# Altium footprint library LED.PcbLib: 3 footprints
Each footprint in its own frame and in the unit in brackets; x right, y up, seen from the top. Pads: shape width x height; smd on the part's side, far side on the other; paste and mask are expansions set on the pad; w line width, h text height; cw(c..) or ccw(c..) is an arc to the next point about the centre after c.
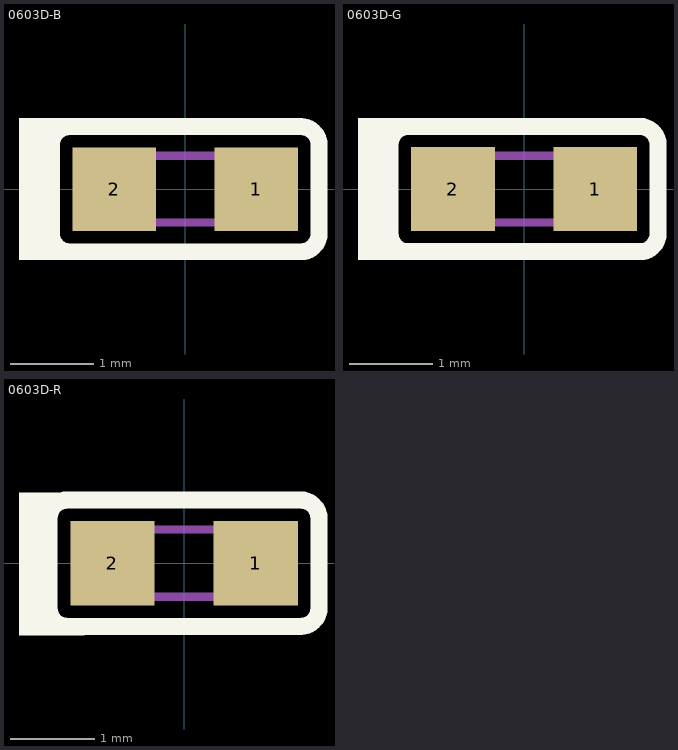
[diagram p0: the footprints below, top view; thin cyan lines are the x and y axes]

## 0603D-B [mm] "Blue LED  PKG=0603"
pads (2):
  rect 1x1 smd paste+0 mask+0: 1(0.85,0) 2(-0.85,0)
Top Overlay:
  rectangle: -1.8,0.667 -1.15,0.853
  rectangle: -1.99,-0.849 -1.533,0.853
  rectangle: -1.8,-0.849 -1.216,-0.684
  lines w0.203: -1.602,-0.533 ccw(c-1.386,-0.533) -1.386,-0.749 1.386,-0.749 ccw(c1.386,-0.533) 1.602,-0.533 1.602,0.533 ccw(c1.386,0.533) 1.386,0.749 -1.386,0.749 ccw(c-1.386,0.533) -1.602,0.533 -1.602,-0.533
Mechanical 7:
  lines w0.1: -0.8,-0.4 -0.8,0.4 0.8,0.4 0.8,-0.4 -0.8,-0.4
3D body: height 0.1, standoff 0, extent -0.8,-0.4 0.8,0.4
3D body: height 0.2, standoff 0.15, extent -0.254,-0.254 0.254,0.254
3D body: height 0.25, standoff 0.1, extent -0.6,-0.4 0.6,0.4

## 0603D-G [mm] "Green LED  PKG=0603"
pads (2):
  rect 1x1 smd paste+0 mask+0: 1(0.85,0) 2(-0.85,0)
Top Overlay:
  rectangle: -1.794,-0.85 -1.21,-0.685
  rectangle: -1.985,-0.85 -1.528,0.851
  rectangle: -1.794,0.666 -1.144,0.852
  lines w0.203: -1.602,-0.533 ccw(c-1.386,-0.533) -1.386,-0.749 1.386,-0.749 ccw(c1.386,-0.533) 1.602,-0.533 1.602,0.533 ccw(c1.386,0.533) 1.386,0.749 -1.386,0.749 ccw(c-1.386,0.533) -1.602,0.533 -1.602,-0.533
Mechanical 7:
  lines w0.1: -0.8,-0.4 0.8,-0.4 0.8,0.4 -0.8,0.4 -0.8,-0.4
3D body: height 0.25, standoff 0.1, extent -0.6,-0.4 0.6,0.4
3D body: height 0.2, standoff 0.15, extent -0.254,-0.254 0.254,0.254
3D body: height 0.1, standoff 0, extent -0.8,-0.4 0.8,0.4

## 0603D-R [mm] "Red LED  PKG=0603"
pads (2):
  rect 1x1 smd paste+0 mask+0: 1(0.85,0) 2(-0.85,0)
Top Overlay:
  rectangle: -1.769,-0.86 -1.185,-0.695
  rectangle: -1.96,-0.86 -1.502,0.841
  rectangle: -1.769,0.656 -1.119,0.841
  lines w0.203: -1.602,-0.533 ccw(c-1.386,-0.533) -1.386,-0.749 1.386,-0.749 ccw(c1.386,-0.533) 1.602,-0.533 1.602,0.533 ccw(c1.386,0.533) 1.386,0.749 -1.386,0.749 ccw(c-1.386,0.533) -1.602,0.533 -1.602,-0.533
Mechanical 7:
  lines w0.1: -0.8,-0.4 0.8,-0.4 0.8,0.4 -0.8,0.4 -0.8,-0.4
3D body: height 0.25, standoff 0.1, extent -0.6,-0.4 0.6,0.4
3D body: height 0.2, standoff 0.15, extent -0.254,-0.254 0.254,0.254
3D body: height 0.1, standoff 0, extent -0.8,-0.4 0.8,0.4